# Altium schematic symbol library Dual Ethernet.SchLib: 1 symbol
Pins are listed as number, name and electrical type; pins without a type are passive.

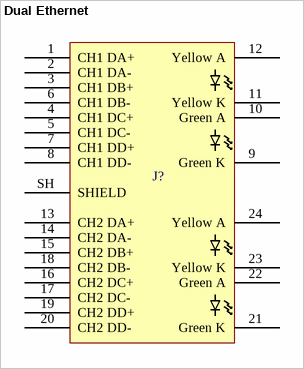
[diagram p0: symbol Dual Ethernet]

## Dual Ethernet
designator J?  (value not drawn)
pins: 1 CH1 DA+, 2 CH1 DA-, 3 CH1 DB+, 4 CH1 DC+, 5 CH1 DC-, 6 CH1 DB-, 7 CH1 DD+, 8 CH1 DD-, 9 Green K, 10 Green A, 11 Yellow K, 12 Yellow A, 13 CH2 DA+, 14 CH2 DA-, 15 CH2 DB+, 16 CH2 DC+, 17 CH2 DC-, 18 CH2 DB-, 19 CH2 DD+, 20 CH2 DD-, 21 Green K, 22 Green A, 23 Yellow K, 24 Yellow A, SH SHIELD